# Altium footprint library diod_triod.PcbLib: 51 footprints (part 3 of 4)
Each footprint in its own frame and in the unit in brackets; x right, y up, seen from the top. Pads: shape width x height; smd on the part's side, far side on the other; paste and mask are expansions set on the pad; w line width, h text height; cw(c..) or ccw(c..) is an arc to the next point about the centre after c.
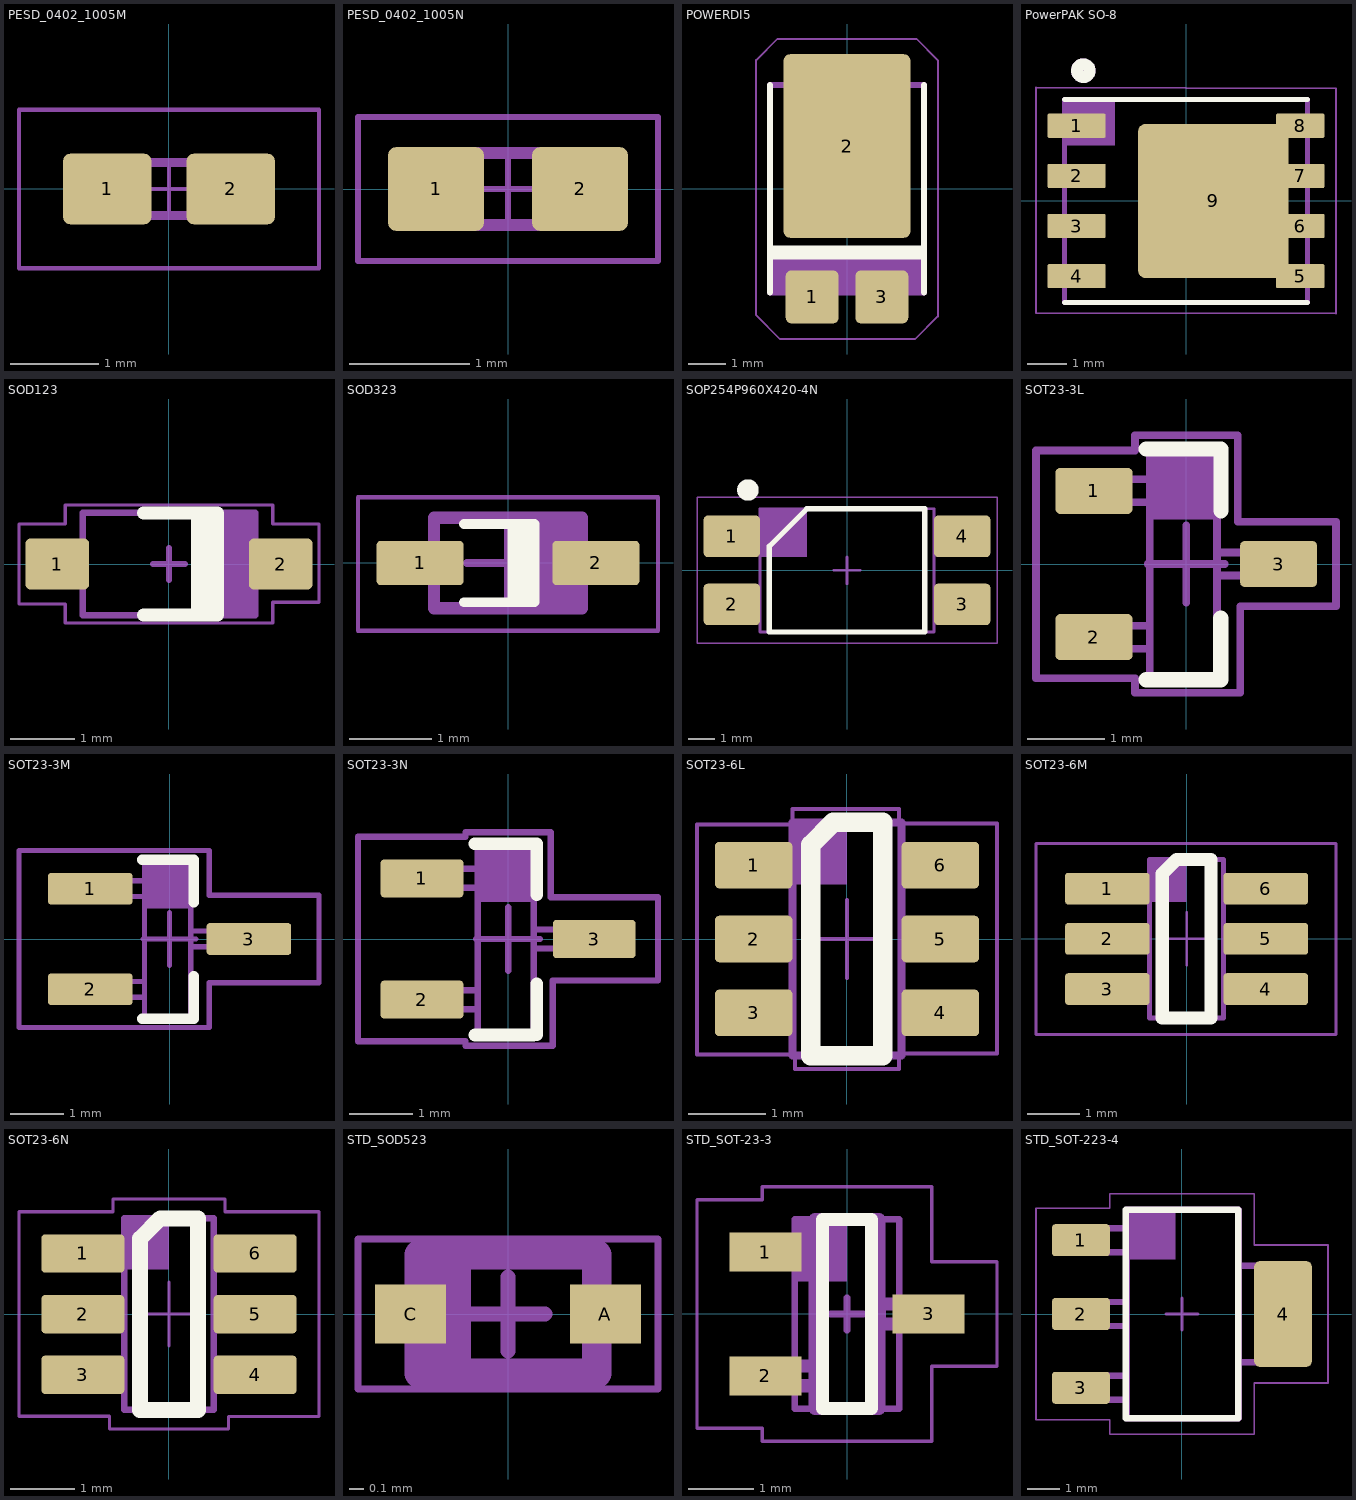
[diagram p2: the footprints below, top view; thin cyan lines are the x and y axes]

## PESD_0402_1005M [mm] "Chip Tvs Diode Surface Mount, Body 1.1x0.5mm, IPC Low Density"
height 0.4
pads (2):
  rrect20% 1x0.8 smd: 1(-0.7,0) 2(0.7,0)
Top Designator:
  text ".Designator" at -2.799,1.2 h0.6
Top Assembly:
  lines w0.1: -0.55,-0.3 0.55,-0.3 0.55,0.3 -0.55,0.3 -0.55,-0.3
Top Courtyard:
  lines w0.05: -0.3,0 0.3,0 ; 0,-0.3 0,0.3 ; -1.7,-0.9 1.7,-0.9 1.7,0.9 -1.7,0.9 -1.7,-0.9
3D body "PESD0402-140.stp": height 0.43, standoff 0, extent -0.5,-0.25 0.5,0.25

## PESD_0402_1005N [mm] "Chip Tvs Diode Surface Mount,  Body 1.1x0.5mm, IPC Medium Density"
height 0.4
pads (2):
  rrect20% 0.8x0.7 smd: 1(-0.6,0) 2(0.6,0)
Top Designator:
  text ".Designator" at -2.799,0.9 h0.6
Top Assembly:
  lines w0.1: -0.55,-0.3 -0.55,0.3 0.55,0.3 0.55,-0.3 -0.55,-0.3
Top Courtyard:
  lines w0.05: -0.3,0 0.3,0 ; 0,-0.3 0,0.3 ; -1.25,-0.6 -1.25,0.6 1.25,0.6 1.25,-0.6 -1.25,-0.6
3D body "PESD0402-140.stp": height 0.43, standoff 0, extent -0.5,-0.25 0.5,0.25

## POWERDI5 [mil]
pads (3):
  rrect20% 55x55 smd: 1(-36.22,-112.5) 3(36.22,-112.5)
  rrect10% 132x191 smd: 2(0,44.5)
Top Overlay:
  lines w6: -80,-108 -80,108 ; -79.88,-66.93 79.89,-66.93 ; -79.77,-62.05 80.01,-62.05 ; -79.45,-70.83 79.87,-70.83 ; 80,-108 80,108
Top Designator:
  text ".Designator" at -118.07,173.23 h23.62
Top Assembly:
  rectangle: -80,-108 82.68,-66.93
  lines w6: -80,-108 -80,108 80,108 80,-108 -80,-108
Top Courtyard:
  lines w1.97: -94.49,-131.59 -94.49,133.88 -72.55,155.82 72.35,155.82 94.49,133.68 94.49,-132.77 70.97,-156.28 -69.8,-156.28 -94.49,-131.59
  lines w3.94: -19.69,0 19.68,0 ; 0,-19.69 0,19.68
3D body "step_temp.STEP": height 45.28, standoff 0, extent -78.07,-128.03 78.07,128.04

## PowerPAK SO-8 [mm]
pads (9):
  rrect10% 1.47x0.61 smd: 1(-2.77,1.905) 2(-2.77,0.635) 3(-2.77,-0.635) 4(-2.77,-1.905)
  rrect10% 1.22x0.61 smd: 5(2.895,-1.905) 6(2.895,-0.635) 7(2.895,0.635) 8(2.895,1.905)
  rrect10% 3.81x3.91 smd: 9(0.69,0)
Top Overlay:
  circle w0.3: c-2.6,3.3 r0.16
  lines w0.127: -3.075,-2.575 3.075,-2.575 ; -3.075,2.575 3.075,2.575
Top Assembly:
  circle w0.3: c-2.6,3.3 r0.16
  rectangle: -3.075,1.4 -1.8,2.575
  lines w0.127: -3.075,-2.575 -3.075,2.575 3.075,2.575 3.075,-2.575 -3.075,-2.575
Top Courtyard:
  lines w0.05: -3.8,-2.833 -3.8,2.875 3.8,2.853 3.8,-2.855 -3.8,-2.833
3D body "step_temp.STEP": height 1.12, standoff 0, extent -3.073,-2.578 3.073,2.578

## SOD123 [mm]
pads (2):
  rrect20% 1x0.8 smd: 1(-1.75,0) 2(1.75,0)
Top Overlay:
  lines w0.2: -0.4,-0.8 0.759,-0.8 ; -0.4,0.8 0.759,0.8 0.759,-0.8 ; 0.441,0.8 0.441,-0.8 0.759,-0.8 ; 0.6,-0.8 0.6,0.8
Top Designator:
  text ".Designator" at -1.9,1.2 h1
Top Assembly:
  region: 1.35,0.8 0.6,0.8 0.6,-0.8 1.35,-0.8
  lines w0.1: 0.85,-0.8 0.85,0.8 ; -1.35,-0.8 -1.35,0.8 1.35,0.8 1.35,-0.8 -1.35,-0.8
Top Courtyard:
  lines w0.05: -2.35,-0.625 -1.625,-0.625 -1.625,-0.925 1.625,-0.925 1.625,-0.6 2.35,-0.6 2.35,0.625 1.625,0.625 1.625,0.925 -1.625,0.925 -1.625,0.625 -2.35,0.625 -2.35,-0.625
  lines w0.1: -0.25,0 0.25,0 ; 0,-0.25 0,0.25
3D body "SOD-123.step": height 1.25, standoff 0, extent -1.849,-0.8 1.849,0.8

## SOD323 [mm]
height 1.17
pads (2):
  rrect20% 1.06x0.54 smd: 1(-1.07,0) 2(1.07,0)
Top Overlay:
  rectangle: -0.003,-0.476 0.295,0.478
  lines w0.12: -0.534,-0.477 0.323,-0.476 0.323,0.474 -0.534,0.473
Top Designator:
  text ".Designator" at -2.999,1.4 h0.6
Top Assembly:
  rectangle: 0.165,-0.494 0.858,0.5
  lines w0.15: -0.9,-0.175 -1.239,-0.175 -1.239,0.177 -0.9,0.177 ; 0.9,-0.176 1.219,-0.176 1.219,0.186 0.9,0.186 ; -0.9,-0.55 0.9,-0.55 0.9,0.548 -0.9,0.548 -0.9,-0.55
Top Courtyard:
  lines w0.05: -1.825,-0.825 1.825,-0.825 1.825,0.8 -1.825,0.8 -1.825,-0.825
  lines w0.1: -0.5,0 0.5,0 ; 0,-0.5 0,0.5
3D body "SOD323.STEP": height 1.1, standoff 0, extent -1.3,-0.675 1.3,0.675

## SOP254P960X420-4N [mm]
pads (4):
  rrect20% 2.1x1.55 smd: 1(-4.3,1.27) 2(-4.3,-1.27) 3(4.3,-1.27) 4(4.3,1.27)
Top Overlay:
  circle w0.4: c-3.7,3 r0.2
  lines w0.2: -2.9,-2.3 2.9,-2.3 2.9,2.3 -1.5,2.3 -2.9,0.9 -2.9,-2.3
Top Designator:
  text ".Designator" at -2.499,3.2 h0.6
Top Assembly:
  rectangle: -3.25,0.5 -1.5,2.3
  lines w0.1: -3.25,-2.3 3.25,-2.3 3.25,2.3 -3.25,2.3 -3.25,-2.3
Top Courtyard:
  lines w0.05: -5.6,-2.725 5.6,-2.725 5.6,2.725 -5.6,2.725 -5.6,-2.725
  lines w0.1: -0.5,0 0.5,0 ; 0,-0.5 0,0.5
3D body "DIP4 Gullwing.STEP": height 3.62, standoff 0.02, extent -4.8,-2.3 4.8,2.3

## SOT23-3L [mm] "SOT23, 3-Leads, Body 2.9x1.3mm, Pitch 0.95mm, Lead Span 2.5mm, IPC High Density"
height 1.1
pads (3):
  rrect20% 1x0.6 smd: 1(-1.2,0.95) 2(-1.2,-0.95) 3(1.2,0)
Top Overlay:
  lines w0.2: -0.519,-1.505 0.448,-1.505 0.448,-0.705 ; -0.519,1.495 0.451,1.495 0.451,0.695
Top Designator:
  text ".Designator" at -2.849,2.275 h0.6
Top Assembly:
  rectangle: -0.474,0.58 0.398,1.495
  lines w0.1: -0.483,0.802 -1.246,0.802 -1.246,1.1 -0.478,1.1 ; -0.48,-1.1 -1.246,-1.1 -1.246,-0.802 -0.479,-0.802 ; 0.402,0.15 1.246,0.15 1.246,-0.148 0.408,-0.148 ; -0.474,-1.5 0.4,-1.5 0.4,1.5 -0.474,1.5 -0.474,-1.5
Top Courtyard:
  lines w0.1: -0.668,1.673 -0.668,1.475 -1.954,1.475 -1.954,-1.487 -0.668,-1.487 -0.668,-1.675 0.7,-1.675 0.7,-0.548 1.946,-0.548 1.946,0.55 0.668,0.55 0.668,1.675 -0.668,1.675 ; -0.5,0 0.5,0 ; 0,-0.5 0,0.5
3D body "SOT23-3.step": height 1.1, standoff 0, extent -1.25,-1.5 1.25,1.5

## SOT23-3M [mm] "SOT23, 3-Leads, Body 2.9x1.3mm, Pitch 0.95mm, Lead Span 2.5mm, IPC Low Density"
height 1.1
pads (3):
  rrect20% 1.6x0.6 smd: 1(-1.5,0.95) 2(-1.5,-0.95) 3(1.5,0)
Top Overlay:
  lines w0.2: -0.519,-1.505 0.46,-1.505 0.46,-0.705 ; -0.519,1.495 0.46,1.495 0.46,0.695
Top Designator:
  text ".Designator" at -2.749,2.275 h0.6
Top Assembly:
  rectangle: -0.474,0.58 0.398,1.495
  lines w0.1: -0.483,0.802 -1.246,0.802 -1.246,1.1 -0.478,1.1 ; -0.48,-1.1 -1.246,-1.1 -1.246,-0.802 -0.479,-0.802 ; 0.402,0.15 1.246,0.15 1.246,-0.148 0.408,-0.148 ; -0.474,-1.5 0.4,-1.5 0.4,1.5 -0.474,1.5 -0.474,-1.5
Top Courtyard:
  lines w0.1: -0.668,1.673 -2.845,1.673 -2.845,-1.675 -0.668,-1.675 0.75,-1.675 0.75,-0.826 2.825,-0.826 2.825,0.825 0.75,0.825 0.75,1.675 -0.668,1.675 ; -0.5,0 0.5,0 ; 0,-0.5 0,0.5
3D body "SOT23-3.step": height 1.1, standoff 0, extent -1.25,-1.5 1.25,1.5

## SOT23-3N [mm] "SOT23, 3-Leads, Body 2.9x1.3mm, Pitch 0.95mm, Lead Span 2.5mm, IPC Medium Density"
height 1.1
pads (3):
  rrect20% 1.3x0.6 smd: 1(-1.35,0.95) 2(-1.35,-0.95) 3(1.35,0)
Top Overlay:
  lines w0.2: -0.519,-1.505 0.4,-1.505 ; -0.519,1.495 0.45,1.495 0.45,0.695 ; 0.45,-1.5 0.45,-1.3 0.45,-0.9 0.45,-0.7
Top Designator:
  text ".Designator" at -2.999,2.2 h0.6
Top Assembly:
  rectangle: -0.474,0.58 0.398,1.495
  lines w0.1: -0.483,0.802 -1.246,0.802 -1.246,1.1 -0.478,1.1 ; -0.48,-1.1 -1.246,-1.1 -1.246,-0.802 -0.479,-0.802 ; 0.402,0.15 1.246,0.15 1.246,-0.148 0.408,-0.148 ; -0.474,-1.5 0.402,-1.5 0.402,1.5 -0.474,1.5 -0.474,-1.5
Top Courtyard:
  lines w0.1: -0.668,1.673 -0.668,1.602 -2.353,1.602 -2.353,-1.602 -0.668,-1.602 -0.668,-1.675 0.7,-1.675 0.7,-0.65 2.35,-0.65 2.35,0.654 0.668,0.654 0.668,1.675 -0.668,1.675 ; -0.5,0 0.5,0 ; 0,-0.5 0,0.5
3D body "SOT23-3.step": height 1.1, standoff 0, extent -1.25,-1.5 1.25,1.5

## SOT23-6L [mm] "SOT23, 6-Leads, Body 2.9x1.3mm, Pitch 0.95mm, Lead Span 2.5mm, IPC High Density"
height 1.1
pads (6):
  rrect20% 1x0.6 smd: 1(-1.2,0.95) 2(-1.2,0) 3(-1.2,-0.95) 4(1.2,-0.95) 5(1.2,0) 6(1.2,0.95)
Top Overlay:
  lines w0.25: -0.465,-1.5 -0.465,1.213 -0.178,1.5 0.463,1.5 0.463,-1.5 -0.465,-1.5
Top Designator:
  text ".Designator" at -2.774,2.125 h0.6
Top Assembly:
  rectangle: -0.7,0.7 0,1.475
  lines w0.1: -0.747,-1.1 -1.246,-1.1 -1.246,-0.802 -0.747,-0.802 ; -0.747,-0.15 -1.246,-0.15 -1.246,0.148 -0.747,0.148 ; -0.747,0.802 -1.246,0.802 -1.246,1.1 -0.747,1.1 ; 0.747,-1.1 1.246,-1.1 1.246,-0.802 0.747,-0.802 ; 0.747,-0.148 1.246,-0.148 1.246,0.15 0.747,0.15 ; 0.747,0.802 1.246,0.802 1.246,1.1 0.747,1.1 ; -0.7,-1.5 -0.7,1.5 0.7,1.5 0.7,-1.5 -0.7,-1.5
Top Courtyard:
  lines w0.05: -0.5,0 0.5,0 ; 0,-0.5 0,0.5 ; 0.668,-1.675 -0.668,-1.675 -0.668,-1.487 -1.93,-1.487 -1.93,1.475 -0.7,1.475 -0.7,1.675 0.668,1.675 0.668,1.487 1.93,1.487 1.93,-1.475 0.668,-1.475 0.668,-1.673
3D body "SOT23-6.step": height 1.1, standoff 0, extent -1.253,-1.497 1.247,1.503

## SOT23-6M [mm] "SOT23, 6-Leads, Body 2.9x1.3mm, Pitch 0.95mm, Lead Span 2.5mm, IPC Low Density"
height 1.1
pads (6):
  rrect20% 1.6x0.6 smd: 1(-1.5,0.95) 2(-1.5,0) 3(-1.5,-0.95) 4(1.5,-0.95) 5(1.5,0) 6(1.5,0.95)
Top Overlay:
  lines w0.25: -0.462,-1.5 -0.462,1.232 -0.194,1.5 0.464,1.5 0.464,-1.5 -0.462,-1.5
Top Designator:
  text ".Designator" at -2.749,2.275 h0.6
Top Assembly:
  rectangle: -0.7,0.7 0,1.475
  lines w0.1: -0.747,-1.1 -1.246,-1.1 -1.246,-0.802 -0.747,-0.802 ; -0.747,-0.15 -1.246,-0.15 -1.246,0.148 -0.747,0.148 ; -0.747,0.802 -1.246,0.802 -1.246,1.1 -0.747,1.1 ; 0.747,-1.1 1.246,-1.1 1.246,-0.802 0.747,-0.802 ; 0.747,-0.148 1.246,-0.148 1.246,0.15 0.747,0.15 ; 0.747,0.802 1.246,0.802 1.246,1.1 0.747,1.1 ; -0.7,-1.5 0.7,-1.5 0.7,1.5 -0.7,1.5 -0.7,-1.5
Top Courtyard:
  lines w0.05: -0.5,0 0.5,0 ; 0,-0.5 0,0.5 ; -2.85,-1.811 -0.931,-1.811 0.93,-1.811 2.828,-1.811 2.828,1.805 0.875,1.805 -0.875,1.805 -2.85,1.805 -2.85,-1.811
3D body "SOT23-6.step": height 1.1, standoff 0, extent -1.275,-1.5 1.225,1.5

## SOT23-6N [mm] "SOT23, 6-Leads, Body 2.9x1.3mm, Pitch 0.95mm, Lead Span 2.5mm, IPC Medium Density"
height 1.1
pads (6):
  rrect20% 1.3x0.6 smd: 1(-1.35,0.95) 2(-1.35,0) 3(-1.35,-0.95) 4(1.35,-0.95) 5(1.35,0) 6(1.35,0.95)
Top Overlay:
  lines w0.25: -0.454,-1.5 0.456,-1.5 0.456,1.5 -0.136,1.5 -0.454,1.182 -0.454,-1.5
Top Designator:
  text ".Designator" at -2.874,2.325 h0.6
Top Assembly:
  rectangle: -0.7,0.7 0,1.475
  lines w0.1: -0.747,-1.1 -1.246,-1.1 -1.246,-0.802 -0.747,-0.802 ; -0.747,0.802 -1.246,0.802 -1.246,1.1 -0.747,1.1 ; -0.701,-0.149 -1.241,-0.149 -1.241,0.149 -0.701,0.149 ; 0.701,-0.149 1.244,-0.149 1.244,0.149 0.701,0.149 ; 0.747,-1.1 1.246,-1.1 1.246,-0.802 0.747,-0.802 ; 0.747,0.802 1.246,0.802 1.246,1.1 0.747,1.1 ; -0.7,-1.5 -0.7,1.5 0.7,1.5 0.7,-1.5 -0.7,-1.5
Top Courtyard:
  lines w0.05: -0.5,0 0.5,0 ; 0,-0.5 0,0.5 ; -2.35,-1.6 -2.35,1.603 -0.875,1.603 -0.875,1.805 0.875,1.805 0.875,1.604 2.35,1.604 2.35,-1.603 0.93,-1.603 0.93,-1.8 -0.931,-1.8 -0.931,-1.6 -2.35,-1.6
3D body "SOT23-6.step": height 1.1, standoff 0, extent -1.25,-1.5 1.25,1.5

## STD_SOD523 [mm]
pads (2):
  rect 0.48x0.4 smd mask+0.05: A(0.66,0) C(-0.66,0)
Bottom Dimensions:
  rectangle: -0.6,-0.4 -0.3,0.4
  lines w0.1: -0.3,-0.4 -0.3,0.4
  lines w0.2: -0.6,-0.4 0.6,-0.4 0.6,0.4 -0.6,0.4 -0.6,-0.4
  text ".Designator" at -1.016,1.397 h1
Top Assembly:
  rectangle: -0.6,-0.4 -0.3,0.4
  lines w0.1: -0.85,0 -0.6,0 ; -0.3,-0.4 -0.3,0.4 ; 0.6,0 0.85,0 ; -0.6,-0.4 0.6,-0.4 0.6,0.4 -0.6,0.4 -0.6,-0.4
Top Courtyard:
  lines w0.05: -1.016,-0.508 -1.016,0.508 1.016,0.508 1.016,-0.508 -1.016,-0.508
  lines w0.1: -0.25,0 0.25,0 ; 0,-0.25 0,0.25
3D body "SOD-523F-1.step": height 0.7, standoff 0, extent -0.8,-0.399 0.8,0.399

## STD_SOT-23-3 [mm]
pads (3):
  rect 1.1x0.6 smd mask+0.075: 1(-1.25,0.95) 2(-1.25,-0.95) 3(1.25,0)
Top Overlay:
  lines w0.2: -0.375,-1.45 -0.375,1.45 0.375,1.45 0.375,-1.45 -0.375,-1.45
Top Designator:
  text ".Designator" at -2.175,2.375 h1
Bottom Dimensions:
  lines w0.2: -1.488,-1.1 -0.488,-1.1 -0.488,-0.8 -1.488,-0.8 -1.488,-1.1 ; -1.488,0.8 -0.488,0.8 -0.488,1.1 -1.488,1.1 -1.488,0.8 ; -0.487,-1.45 0.487,-1.45 0.487,1.45 -0.487,1.45 -0.487,-1.45 ; 0.5,-0.15 1.5,-0.15 1.5,0.15 0.5,0.15 0.5,-0.15
Top Assembly:
  rectangle: -0.8,0.5 0,1.45
  lines w0.1: -0.8,-1.138 -1.4,-1.138 -1.4,-0.763 -0.8,-0.763 ; -0.8,0.763 -1.4,0.763 -1.4,1.138 -0.8,1.138 ; 0.8,-0.188 1.4,-0.188 1.4,0.188 0.8,0.188 ; -0.8,-1.45 0.8,-1.45 0.8,1.45 -0.8,1.45 -0.8,-1.45
Top Courtyard:
  lines w0.05: -2.3,-1.75 -2.3,1.75 -1.3,1.75 -1.3,1.95 1.3,1.95 1.3,0.8 2.3,0.8 2.3,-0.8 1.3,-0.8 1.3,-1.95 -1.3,-1.95 -1.3,-1.75 -2.3,-1.75
  lines w0.1: -0.25,0 0.25,0 ; 0,-0.25 0,0.25
3D body "SOT-23-3(DBZ).step": height 0.97, standoff -0.01, extent -1.257,-1.461 1.257,1.461

## STD_SOT-223-4 [mm]
pads (4):
  rrect20% 1.8x1 smd mask+0.1: 1(-3.15,2.3) 2(-3.15,0) 3(-3.15,-2.3)
  rrect20% 1.8x3.3 smd mask+0.1: 4(3.15,0)
Top Overlay:
  lines w0.2: -1.75,-3.25 -1.75,3.25 1.75,3.25 1.75,-3.25 -1.75,-3.25
Top Designator:
  text ".Designator" at -2.999,4.1 h0.6
Bottom Dimensions:
  lines w0.2: -1.725,-2.675 -3.475,-2.675 -3.475,-1.925 -1.725,-1.925 ; -1.725,-0.375 -3.475,-0.375 -3.475,0.375 -1.725,0.375 ; -1.725,1.925 -3.475,1.925 -3.475,2.675 -1.725,2.675 ; 1.775,-1.5 3.525,-1.5 3.525,1.5 1.775,1.5 ; -1.725,-3.25 -1.725,3.25 1.775,3.25 1.775,-3.25 -1.725,-3.25
Top Assembly:
  rectangle: -1.75,1.7 -0.2,3.25
  lines w0.1: -1.75,-2.675 -3.5,-2.675 -3.5,-1.925 -1.75,-1.925 ; -1.75,-0.375 -3.5,-0.375 -3.5,0.375 -1.75,0.375 ; -1.75,1.925 -3.5,1.925 -3.5,2.675 -1.75,2.675 ; 1.75,-1.5 3.5,-1.5 3.5,1.5 1.75,1.5 ; -1.75,-3.25 -1.75,3.25 1.75,3.25 1.75,-3.25 -1.75,-3.25
Top Courtyard:
  lines w0.05: -4.55,-3.3 -2.25,-3.3 -2.25,-3.75 2.25,-3.75 2.25,-2.15 4.55,-2.15 4.55,2.15 2.25,2.15 2.25,3.75 -2.25,3.75 -2.25,3.3 -4.55,3.3 -4.55,-3.3
  lines w0.1: -0.5,0 0.5,0 ; 0,-0.5 0,0.5
3D body "SOT-223-3.step": height 1.68, standoff 0, extent -3.48,-3.25 3.48,3.25